# Altium footprint library PCB-Library.PcbLib: 28 footprints (part 2 of 2)
Each footprint in its own frame and in the unit in brackets; x right, y up, seen from the top. Pads: shape width x height; smd on the part's side, far side on the other; paste and mask are expansions set on the pad; w line width, h text height; cw(c..) or ccw(c..) is an arc to the next point about the centre after c.
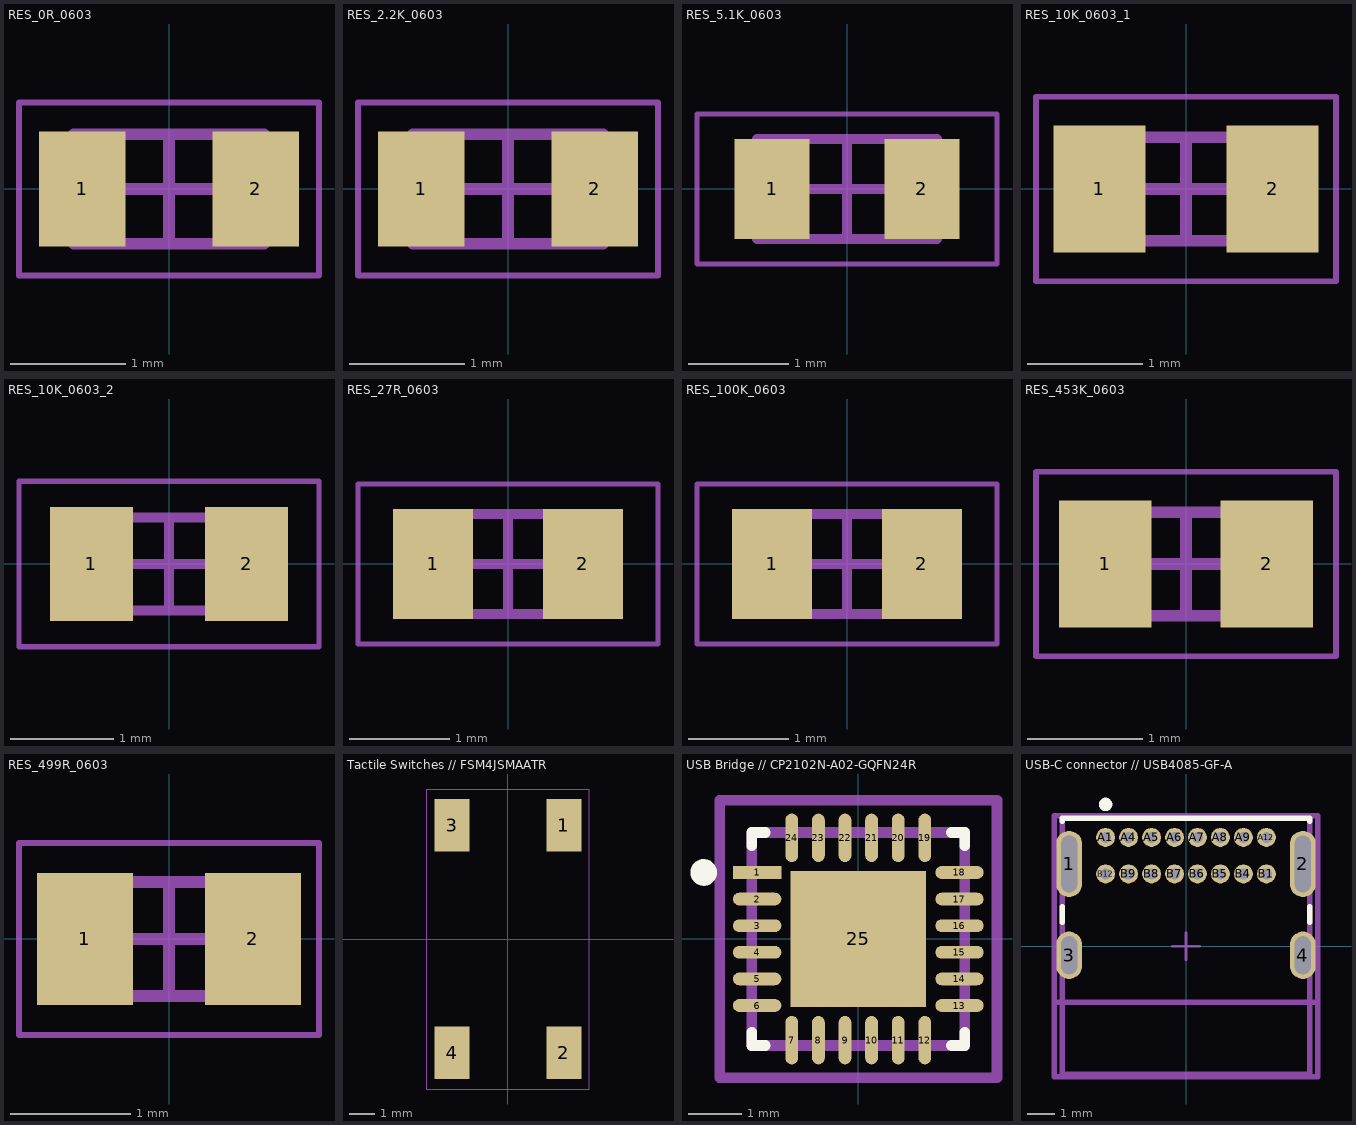
[diagram p1: the footprints below, top view; thin cyan lines are the x and y axes]

## RES_0R_0603 [mm] "Chip Resistor, 2-Leads, Body 1,58x0,85mm, IPC Medium Density"
height 0.5
pads (2):
  rect 0.75x1 smd: 1(-0.75,0) 2(0.75,0)
Mechanical 13:
  lines w0.1: -0.825,-0.475 -0.825,0.475 0.825,0.475 0.825,-0.475 -0.825,-0.475
Mechanical 15:
  lines w0.05: -1.3,-0.75 -1.3,0.75 1.3,0.75 1.3,-0.75 -1.3,-0.75
  lines w0.1: -0.475,0 0.475,0 ; 0,-0.475 0,0.475
3D body: height 0.5, standoff 0, extent -0.525,-0.475 0.525,0.475
3D body: height 0.5, standoff 0, extent -0.825,-0.475 -0.525,0.475
3D body: height 0.5, standoff 0, extent 0.525,-0.475 0.825,0.475

## RES_2.2K_0603 [mm] "Chip Resistor, 2-Leads, Body 1,58x0,85mm, IPC Medium Density"
height 0.5
pads (2):
  rect 0.75x1 smd: 1(-0.75,0) 2(0.75,0)
Mechanical 13:
  lines w0.1: -0.825,-0.475 0.825,-0.475 0.825,0.475 -0.825,0.475 -0.825,-0.475
Mechanical 15:
  lines w0.05: -1.3,-0.75 1.3,-0.75 1.3,0.75 -1.3,0.75 -1.3,-0.75
  lines w0.1: -0.475,0 0.475,0 ; 0,-0.475 0,0.475
3D body: height 0.5, standoff 0, extent 0.525,-0.475 0.825,0.475
3D body: height 0.5, standoff 0, extent -0.825,-0.475 -0.525,0.475
3D body: height 0.5, standoff 0, extent -0.525,-0.475 0.525,0.475

## RES_5.1K_0603 [mm] "Chip Resistor, 2-Leads, Body 1,60x0,80mm, IPC Medium Density"
height 0.5
pads (2):
  rect 0.75x1 smd: 1(-0.75,0) 2(0.75,0)
Mechanical 13:
  lines w0.1: -0.9,-0.5 -0.9,0.5 0.9,0.5 0.9,-0.5 -0.9,-0.5
Mechanical 15:
  lines w0.05: -1.5,-0.75 -1.5,0.75 1.5,0.75 1.5,-0.75 -1.5,-0.75
  lines w0.1: -0.5,0 0.5,0 ; 0,-0.5 0,0.5
3D body: height 0.5, standoff 0, extent -0.6,-0.5 0.6,0.5
3D body: height 0.5, standoff 0, extent -0.9,-0.5 -0.6,0.5
3D body: height 0.5, standoff 0, extent 0.6,-0.5 0.9,0.5

## RES_10K_0603_1 [mm] "Chip Resistor, 2-Leads, Body 1,55x0,80mm, IPC Medium Density"
height 0.55
pads (2):
  rect 0.8x1.1 smd: 1(-0.75,0) 2(0.75,0)
Mechanical 13:
  lines w0.1: -0.825,-0.45 0.825,-0.45 0.825,0.45 -0.825,0.45 -0.825,-0.45
Mechanical 15:
  lines w0.05: -1.3,-0.8 1.3,-0.8 1.3,0.8 -1.3,0.8 -1.3,-0.8
  lines w0.1: -0.45,0 0.45,0 ; 0,-0.45 0,0.45
3D body: height 0.55, standoff 0, extent 0.525,-0.45 0.825,0.45
3D body: height 0.55, standoff 0, extent -0.825,-0.45 -0.525,0.45
3D body: height 0.55, standoff 0, extent -0.525,-0.45 0.525,0.45

## RES_10K_0603_2 [mm] "Chip Resistor, 2-Leads, Body 1,60x0,80mm, IPC Medium Density"
height 0.55
pads (2):
  rect 0.8x1.1 smd: 1(-0.75,0) 2(0.75,0)
Mechanical 13:
  lines w0.1: -0.85,-0.45 -0.85,0.45 0.85,0.45 0.85,-0.45 -0.85,-0.45
Mechanical 15:
  lines w0.05: -1.45,-0.8 -1.45,0.8 1.45,0.8 1.45,-0.8 -1.45,-0.8
  lines w0.1: -0.45,0 0.45,0 ; 0,-0.45 0,0.45
3D body: height 0.55, standoff 0, extent -0.55,-0.45 0.55,0.45
3D body: height 0.55, standoff 0, extent -0.85,-0.45 -0.55,0.45
3D body: height 0.55, standoff 0, extent 0.55,-0.45 0.85,0.45

## RES_27R_0603 [mm] "Chip Resistor, 2-Leads, Body 1,60x0,80mm, IPC Medium Density"
height 0.5
pads (2):
  rect 0.8x1.1 smd: 1(-0.75,0) 2(0.75,0)
Mechanical 13:
  lines w0.1: -0.9,-0.5 0.9,-0.5 0.9,0.5 -0.9,0.5 -0.9,-0.5
Mechanical 15:
  lines w0.05: -1.5,-0.8 1.5,-0.8 1.5,0.8 -1.5,0.8 -1.5,-0.8
  lines w0.1: -0.5,0 0.5,0 ; 0,-0.5 0,0.5
3D body: height 0.5, standoff 0, extent 0.6,-0.5 0.9,0.5
3D body: height 0.5, standoff 0, extent -0.9,-0.5 -0.6,0.5
3D body: height 0.5, standoff 0, extent -0.6,-0.5 0.6,0.5

## RES_100K_0603 [mm] "Chip Resistor, 2-Leads, Body 1,60x0,80mm, IPC Medium Density"
height 0.65
pads (2):
  rect 0.8x1.1 smd: 1(-0.75,0) 2(0.75,0)
Mechanical 13:
  lines w0.1: -0.9,-0.5 -0.9,0.5 0.9,0.5 0.9,-0.5 -0.9,-0.5
Mechanical 15:
  lines w0.05: -1.5,-0.8 -1.5,0.8 1.5,0.8 1.5,-0.8 -1.5,-0.8
  lines w0.1: -0.5,0 0.5,0 ; 0,-0.5 0,0.5
3D body: height 0.65, standoff 0, extent -0.55,-0.5 0.55,0.5
3D body: height 0.65, standoff 0, extent -0.9,-0.5 -0.55,0.5
3D body: height 0.65, standoff 0, extent 0.55,-0.5 0.9,0.5

## RES_453K_0603 [mm] "Chip Resistor, 2-Leads, Body 1,55x0,80mm, IPC Medium Density"
height 0.55
pads (2):
  rect 0.8x1.1 smd: 1(-0.7,0) 2(0.7,0)
Mechanical 13:
  lines w0.1: -0.825,-0.45 -0.825,0.45 0.825,0.45 0.825,-0.45 -0.825,-0.45
Mechanical 15:
  lines w0.05: -1.3,-0.8 -1.3,0.8 1.3,0.8 1.3,-0.8 -1.3,-0.8
  lines w0.1: -0.45,0 0.45,0 ; 0,-0.45 0,0.45
3D body: height 0.55, standoff 0, extent -0.525,-0.45 0.525,0.45
3D body: height 0.55, standoff 0, extent -0.825,-0.45 -0.525,0.45
3D body: height 0.55, standoff 0, extent 0.525,-0.45 0.825,0.45

## RES_499R_0603 [mm] "Chip Resistor, 2-Leads, Body 1,55x0,85mm, IPC Medium Density"
height 0.55
pads (2):
  rect 0.8x1.1 smd: 1(-0.7,0) 2(0.7,0)
Mechanical 13:
  lines w0.1: -0.8,-0.475 -0.8,0.475 0.8,0.475 0.8,-0.475 -0.8,-0.475
Mechanical 15:
  lines w0.05: -1.25,-0.8 -1.25,0.8 1.25,0.8 1.25,-0.8 -1.25,-0.8
  lines w0.1: -0.475,0 0.475,0 ; 0,-0.475 0,0.475
3D body: height 0.55, standoff 0, extent -0.52,-0.475 0.52,0.475
3D body: height 0.55, standoff 0, extent -0.8,-0.475 -0.52,0.475
3D body: height 0.55, standoff 0, extent 0.52,-0.475 0.8,0.475

## Tactile Switches // FSM4JSMAATR [mm]
pads (4):
  rect 1.4x2.1 smd: 1(2.23,4.55) 2(2.23,-4.55) 3(-2.23,4.55) 4(-2.23,-4.55)
Mechanical 15:
  lines w0.05: -3.25,-6 3.25,-6 3.25,6 -3.25,6 -3.25,-6

## USB Bridge // CP2102N-A02-GQFN24R [mm]
pads (25):
  rect 0.91x0.239 smd paste+0 mask+0: 1(-1.901,1.25)
  rrect100% 0.91x0.239 smd paste+0 mask+0: 2(-1.901,0.75) 3(-1.901,0.25) 4(-1.901,-0.25) 5(-1.901,-0.75) 6(-1.901,-1.25) 13(1.901,-1.25) 14(1.901,-0.75) 15(1.901,-0.25) 16(1.901,0.25) 17(1.901,0.75) 18(1.901,1.25)
  rrect100% 0.239x0.91 smd paste+0 mask+0: 7(-1.25,-1.901) 8(-0.75,-1.901) 9(-0.25,-1.901) 10(0.25,-1.901) 11(0.75,-1.901) 12(1.25,-1.901) 19(1.25,1.901) 20(0.75,1.901) 21(0.25,1.901) 22(-0.25,1.901) 23(-0.75,1.901) 24(-1.25,1.901)
  rect 2.55x2.55 smd paste-1000 mask+0: 25(0,0)
Top Overlay:
  circle w0.25: c-2.906,1.25 r0.125
  lines w0.2: -2,-1.75 -2,-2 -1.75,-2 ; -2,1.75 -2,2 -1.75,2 ; 1.75,-2 2,-2 2,-1.75 ; 1.75,2 2,2 2,1.75
Top Paste:
  rectangle: -0.806,-0.806 0.806,0.806
Top 3D Body:
  lines w0.2: -2,-2 2,-2 2,2 -2,2 -2,-2
Top Courtyard:
  lines w0.2: -2.606,-2.606 2.606,-2.606 2.606,2.606 -2.606,2.606 -2.606,-2.606
Top Assembly:
  lines w0.2: -2.606,-2.606 2.606,-2.606 2.606,2.606 -2.606,2.606 -2.606,-2.606
  text ".Designator" at 0,0.188 h1
Top Component Center:
  lines w0.1: -0.5,0 0.5,0 ; 0,-0.5 0,0.5
3D body "IC_Silicon_Labs_CP2102N-A02-GQFN24R_eec.STEP": height 0.25, standoff 0, extent -2.606,-2.606 2.606,2.606

## USB-C connector // USB4085-GF-A [mm]
pads (20):
  rrect100% 0.95x2.45 hole 2.1 slot 0.6 at 0 deg paste-2539.97 mask+0: 1(-4.325,3.045) 2(4.325,3.045)
  rrect100% 0.95x1.75 hole 1.4 slot 0.6 at 0 deg paste-2539.97 mask+0: 3(-4.325,-0.335) 4(4.325,-0.335)
  round 0.7 hole 0.4 paste-2539.97 mask+0: A1(-2.975,4.025) A4(-2.125,4.025) A5(-1.275,4.025) A6(-0.425,4.025) A7(0.425,4.025) A8(1.275,4.025) A9(2.125,4.025) A12(2.975,4.025) B1(2.975,2.675) B4(2.125,2.675) B5(1.275,2.675) B6(0.425,2.675) B7(-0.425,2.675) B8(-1.275,2.675) B9(-2.125,2.675) B12(-2.975,2.675)
Top Overlay:
  circle w0.25: c-2.975,5.245 r0.125
  lines w0.2: -4.575,0.89 -4.575,1.47 ; -4.575,4.62 -4.575,4.735 4.575,4.735 4.575,4.62 ; 4.575,0.89 4.575,1.47
Top 3D Body:
  lines w0.2: -4.875,-2.075 4.875,-2.075 ; -4.575,-4.735 -4.575,4.735 4.575,4.735 4.575,-4.735 -4.575,-4.735
Top Courtyard:
  lines w0.2: -4.875,-4.835 -4.875,4.835 4.875,4.835 4.875,-4.835 -4.875,-4.835
Top Assembly:
  lines w0.2: -4.875,-4.835 -4.875,4.835 4.875,4.835 4.875,-4.835 -4.875,-4.835
  text ".Designator" at 0,0.188 h1
Top Component Center:
  lines w0.1: -0.5,0 0.5,0 ; 0,-0.5 0,0.5
3D body "Conn_GCT_USB4085-GF-A_eec.STEP": height 0.25, standoff 0, extent -4.875,-4.835 4.875,4.835